# Altium footprint library JST_B2B-XH-A.PcbLib: 1 footprints
Each footprint in its own frame and in the unit in brackets; x right, y up, seen from the top. Pads: shape width x height; smd on the part's side, far side on the other; paste and mask are expansions set on the pad; w line width, h text height; cw(c..) or ccw(c..) is an arc to the next point about the centre after c.
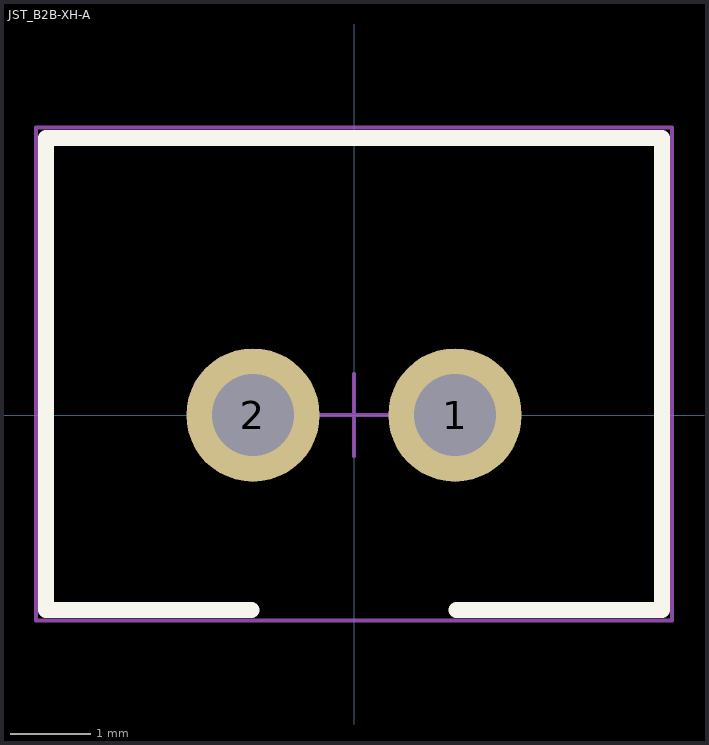
[diagram p0: the footprint, top view; thin cyan lines are the x and y axes]

## JST_B2B-XH-A [mil]
pads (2):
  round 65 hole 40: 1(49.21,0) 2(-49.21,0)
Top Overlay:
  lines w7.87: -50,-95 -150,-95 -150,135 150,135 150,-95 50,-95
Mechanical 15:
  lines w1.97: -20,0 20,0 ; 0,-20 0,20 ; -155,-100 155,-100 155,140 -155,140 -155,-100
3D body "B2B-XH-A.step": height 275.59, standoff -133.86, extent -145.67,-93.19 145.67,133.19